# Altium footprint library AiGateway.PcbLib: 18 footprints (part 1 of 2)
Each footprint in its own frame and in the unit in brackets; x right, y up, seen from the top. Pads: shape width x height; smd on the part's side, far side on the other; paste and mask are expansions set on the pad; w line width, h text height; cw(c..) or ccw(c..) is an arc to the next point about the centre after c.
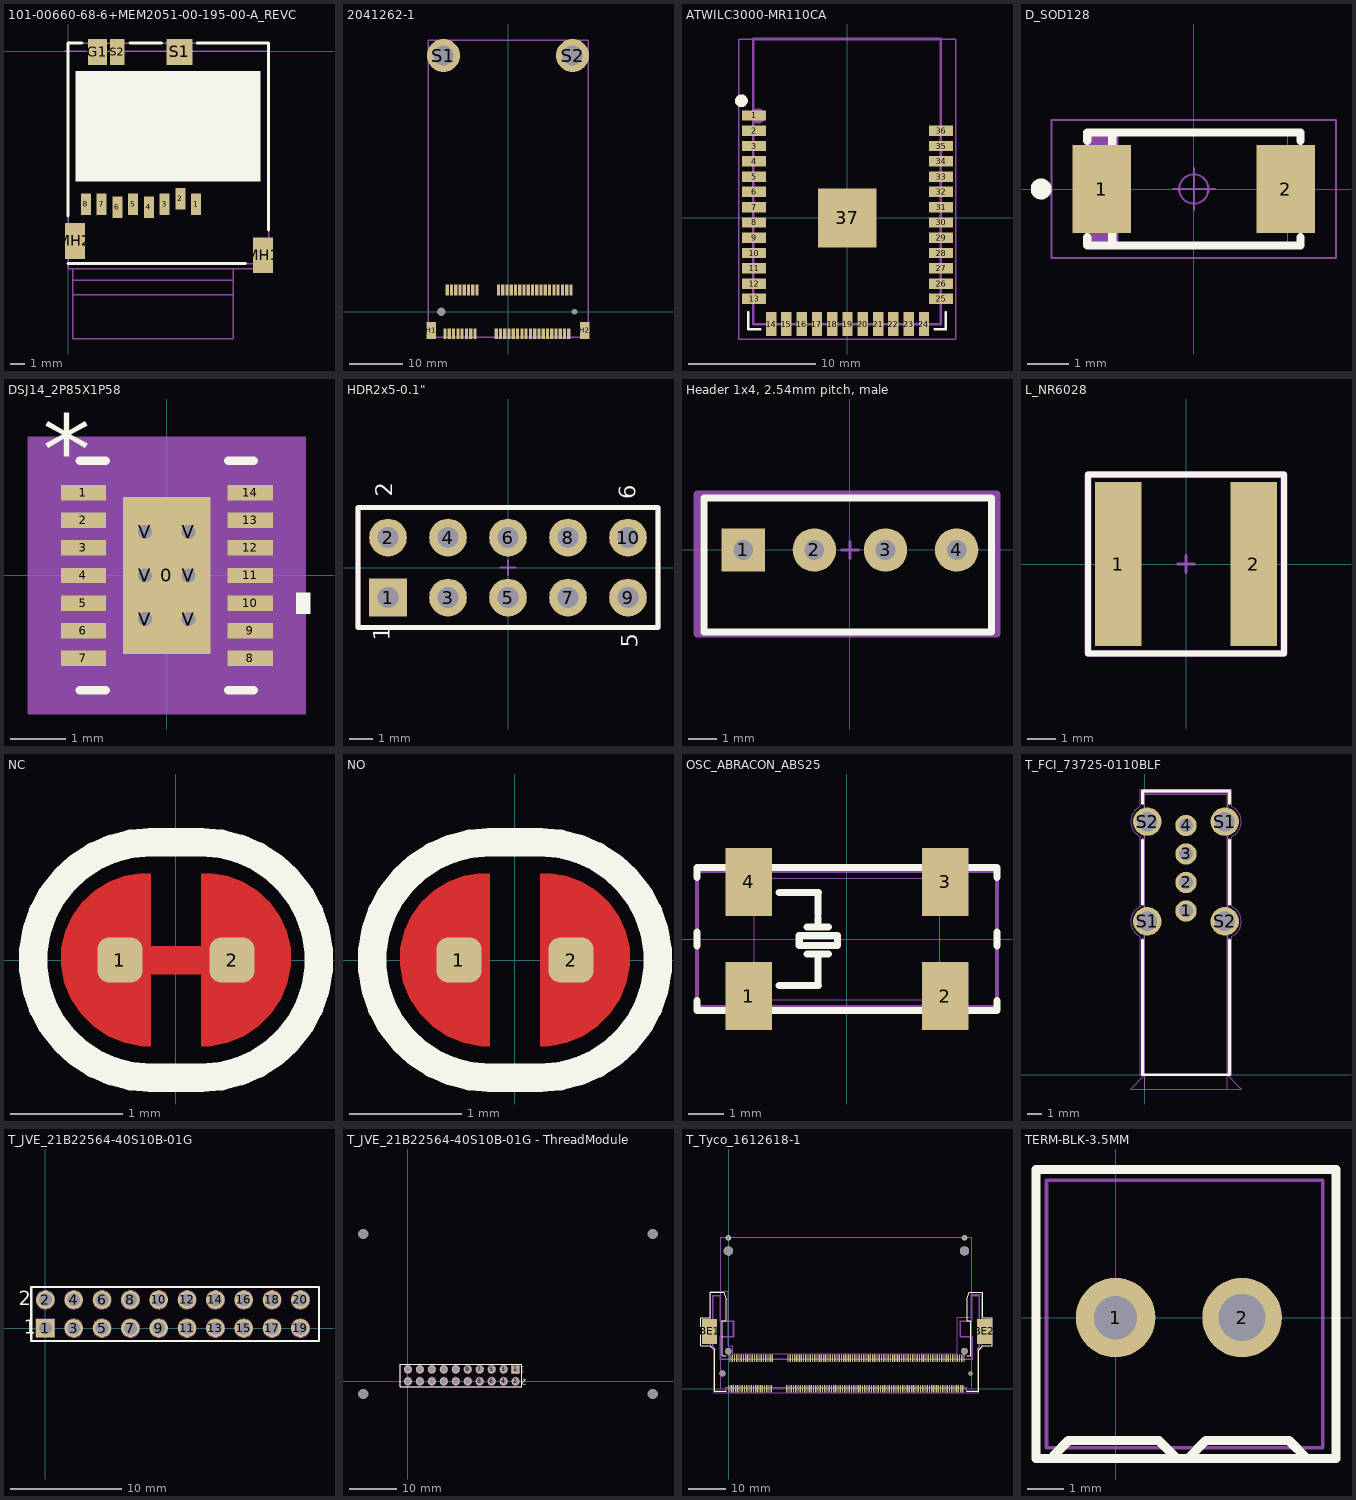
[diagram p0: the footprints below, top view; thin cyan lines are the x and y axes]

## 101-00660-68-6+MEM2051-00-195-00-A_REVC [mm] "FCI microSD connector"
height 1.78
pads (13):
  rect 0.7x1.5 smd: 1(8.92,-10.7) 2(7.82,-10.3) 3(6.72,-10.7) 4(5.62,-10.9) 5(4.52,-10.7) 6(3.42,-10.9) 7(2.32,-10.7) 8(1.22,-10.7)
  rect 1.3x1.8 smd: G1(2.03,-0.05)
  rect 1.4x2.5 smd: MH1(13.6,-14.25) MH2(0.45,-13.25)
  rect 1.8x1.8 smd: S1(7.75,-0.05)
  rect 1x1.8 smd: S2(3.42,-0.05)
Top Layer keep-out:
  rectangle: 0.73,-5.67 9.43,-3.37
Top Overlay:
  rectangle: 0.5,-9.1 13.4,-1.4
  lines w0.2: -0.02,-14.84 12.37,-14.84 ; -0.02,-11.52 -0.02,0.56 0.96,0.56 ; 4.29,0.56 6.5,0.56 ; 9,0.56 13.98,0.56 13.98,-12.5
Mechanical 13:
  lines w0.1: -0.02,-14.84 -0.02,0.56 13.98,0.56 13.98,-14.84 -0.02,-14.84
Mechanical 15:
  lines w0.1: -0.3,0 0.3,0 ; 0,-0.3 0,0.3 ; 0.3,-17 11.5,-17 ; 0.3,-16 11.5,-16 ; 0.3,-15.2 0.3,-20.1 11.5,-20.1 11.5,-15.2 ; 0,-15.2 0,0 14,0 14,-15.2 0,-15.2
  text "ejected" at 3.9,-20.7 h0.5
  text "locked" at 3.9,-17.6 h0.5
  text "push to insert/eject" at 3.9,-16.6 h0.5
  text ".Designator" at 0.9,-2.7 h1.02
3D body: height 1.45, standoff 0.65, extent 0.3,-17 11.5,-2
3D body: height 1.4, standoff 0.7, extent 0.3,-20.1 11.5,-5.1
3D body "MEM2051-00-195-00-A.stp": height 1.95, standoff 0, extent -0.05,-14.75 14.05,0.6

## 2041262-1 [mm]
height 6.8
pads (58):
  rect 0.6x2 smd: 1(-11.8,-4.1) 2(-11.4,4.1) 3(-11,-4.1) 4(-10.6,4.1) 5(-10.2,-4.1) 6(-9.8,4.1) 7(-9.4,-4.1) 8(-9,4.1) 9(-8.6,-4.1) 10(-8.2,4.1) 11(-7.8,-4.1) 12(-7.4,4.1) 13(-7,-4.1) 14(-6.6,4.1) 15(-6.2,-4.1) 16(-5.8,4.1) 17(-2.2,-4.1) 18(-1.8,4.1) 19(-1.4,-4.1) 20(-1,4.1) 21(-0.6,-4.1) 22(-0.2,4.1) 23(0.2,-4.1) 24(0.6,4.1) 25(1,-4.1) 26(1.4,4.1) 27(1.8,-4.1) 28(2.2,4.1) 29(2.6,-4.1) 30(3,4.1) 31(3.4,-4.1) 32(3.8,4.1) 33(4.2,-4.1) 34(4.6,4.1) 35(5,-4.1) 36(5.4,4.1) 37(5.8,-4.1) 38(6.2,4.1) 39(6.6,-4.1) 40(7,4.1) 41(7.4,-4.1) 42(7.8,4.1) 43(8.2,-4.1) 44(8.6,4.1) 45(9,-4.1) 46(9.4,4.1) 47(9.8,-4.1) 48(10.2,4.1) 49(10.6,-4.1) 50(11,4.1) 51(11.4,-4.1) 52(11.8,4.1)
  rect 1.8x3.2 smd: H1(-14.4,-3.5) H2(14.4,-3.5)
  round 6.2 / inner round 0 / far side round 0 hole 3.73: S1(-12.1,48.05) S2(12.1,48.05)
  round 0 hole 1.6 unplated: ""(-12.5,0)
  round 0 hole 1.1 unplated: ""(12.5,0)
Top Paste:
  circle w0.6: c-14.265,49.3 r0.2
  circle w0.6: c-13.35,50.215 r0.2
  circle w0.6: c-12.1,50.55 r0.2
  circle w0.6: c-10.85,50.215 r0.2
  circle w0.6: c-9.935,49.3 r0.2
  circle w0.6: c-9.6,48.05 r0.2
  circle w0.6: c-14.6,48.05 r0.2
  circle w0.6: c-14.265,46.8 r0.2
  circle w0.6: c-13.35,45.885 r0.2
  circle w0.6: c-12.1,45.55 r0.2
  circle w0.6: c-10.85,45.885 r0.2
  circle w0.6: c-9.935,46.8 r0.2
  circle w0.6: c14.265,46.8 r0.2
  circle w0.6: c13.35,45.885 r0.2
  circle w0.6: c12.1,45.55 r0.2
  circle w0.6: c10.85,45.885 r0.2
  circle w0.6: c9.935,46.8 r0.2
  circle w0.6: c9.6,48.05 r0.2
  circle w0.6: c14.6,48.05 r0.2
  circle w0.6: c14.265,49.3 r0.2
  circle w0.6: c13.35,50.215 r0.2
  circle w0.6: c12.1,50.55 r0.2
  circle w0.6: c10.85,50.215 r0.2
  circle w0.6: c9.935,49.3 r0.2
Mechanical 15:
  lines w0.1: -12.8,0 -12.2,0 ; -12.5,-0.3 -12.5,0.3
  lines w0.254: -15,-4.8 15,-4.8 15,50.9 -15,50.9 -15,-4.8
  text ".Designator" at -12.6,-2 h1.02
3D body "K3D-NT4-V1_JAE_Proprietary.STEP": height 3.55, standoff -0.6, extent -14.112,46.047 -10.113,50.047
3D body "c-2041262-1-c-3d.stp": height 6.8, standoff -0.65, extent -14.95,-4.77 14.95,4.48
3D body "K3D-NT4-V1_JAE_Proprietary.STEP": height 3.55, standoff -0.6, extent 10.087,46.047 14.087,50.047
3D body: height 5.35, standoff 4.35, extent -15,-0.1 15,50.9
3D body: height 7.85, standoff 5.35, extent -14,7 13.7,45
3D body: height 4.35, standoff 2.85, extent -14,7.1 13.7,45.1

## ATWILC3000-MR110CA [mm]
height 2.113
pads (37):
  rect 1.88x0.813 smd: 1(-7.31,8.05) 2(-7.31,6.85) 3(-7.31,5.65) 4(-7.31,4.45) 5(-7.31,3.25) 6(-7.31,2.05) 7(-7.31,0.85) 8(-7.31,-0.35) 9(-7.31,-1.55) 10(-7.31,-2.75) 11(-7.31,-3.95) 12(-7.31,-5.15) 13(-7.31,-6.35) 25(7.37,-6.35) 26(7.37,-5.15) 27(7.37,-3.95) 28(7.37,-2.75) 29(7.37,-1.55) 30(7.37,-0.35) 31(7.37,0.85) 32(7.37,2.05) 33(7.37,3.25) 34(7.37,4.45) 35(7.37,5.65) 36(7.37,6.85)
  rect 0.813x1.88 smd: 14(-5.97,-8.33) 15(-4.77,-8.33) 16(-3.57,-8.33) 17(-2.37,-8.33) 18(-1.17,-8.33) 19(0.03,-8.33) 20(1.23,-8.33) 21(2.43,-8.33) 22(3.63,-8.33) 23(4.83,-8.33) 24(6.03,-8.33)
  rect 4.6x4.6 smd paste-5: 37(0,0)
Top Overlay:
  circle w0.5: c-8.3,9.2 r0.25
  lines w0.2: -7.75,-7.393 -7.75,-8.75 -6.822,-8.75 ; 6.882,-8.75 7.75,-8.75 7.75,-7.393
Top Paste:
  rectangle: -1.777,0.762 -0.761,1.778
  rectangle: -0.506,0.762 0.51,1.778
  rectangle: -0.507,-0.508 0.509,0.508
  rectangle: -1.776,-0.508 -0.76,0.508
  rectangle: -1.777,-1.778 -0.761,-0.762
  rectangle: -0.506,-1.778 0.51,-0.762
  rectangle: 0.764,-0.508 1.78,0.508
  rectangle: 0.763,-1.778 1.779,-0.762
  rectangle: 0.763,0.762 1.779,1.778
Mechanical 13:
  lines w0.2: -7.366,-8.33 7.366,-8.33 7.366,14.05 -7.366,14.05 -7.366,-8.33
Mechanical 15:
  circle w1: c-7,8 r0.1
  lines w0.1: -0.3,0 0.3,0 ; 0,-0.3 0,0.3 ; -8.5,-9.5 -8.5,14.05 8.53,14.05 8.53,-9.5 -8.5,-9.5
  text ".Designator" at -3.5,-2.8 h1.02
3D body "for3d.step": height 2.73, standoff 0.01, extent -7.34,-8.33 7.34,14.05

## D_SOD128 [mm] "Bidirectional ESD protection"
height 2.29
pads (2):
  rect 1.4x2.1 smd mask+0.2: 1(-2.2,0) 2(2.2,0)
Top Overlay:
  circle w0.25: c-3.65,0 r0.125
  lines w0.2: -2.55,-1.15 -2.55,-1.35 2.55,-1.35 2.55,-1.15 ; -2.55,1.15 -2.55,1.35 2.55,1.35 2.55,1.15 ; -1.95,-1.3 -1.95,1.35
Mechanical 1:
  circle w0.05: c0,0 r0.35
  lines w0.05: -0.5,0 0.5,0 ; 0,-0.5 0,0.5 ; -3.4,-1.65 3.4,-1.65 3.4,1.65 -3.4,1.65 -3.4,-1.65
Mechanical 2:
  lines w0.001: -2.25,-1.395 2.25,-1.395 2.25,1.395 -2.25,1.395 -2.25,-1.395
Mechanical 3:
  lines w0.1: -2.452,-1.332 -2.452,1.332 ; -2.352,-1.332 -2.352,1.332 ; -2.252,-1.332 -2.252,1.332 ; -2.152,-1.332 -2.152,1.332 ; -2.052,-1.332 -2.052,1.332 ; -1.952,-1.332 -1.952,1.332 ; -1.852,-1.332 -1.852,1.332 ; -2.552,-1.332 -2.552,1.332 ; -2.552,-1.332 2.552,-1.332 2.552,1.332 -2.552,1.332 ; -2.552,-1.332 -2.552,1.332
3D body: height 2.29, standoff 0, extent -2.25,-1.395 2.25,1.395

## DSJ14_2P85X1P58 [mm]
pads (21):
  rect 1.58x2.85 smd paste-1.412 mask-1.41: 0(0,0)
  rect 0.82x0.28 smd paste-0.397: 1(-1.51,1.5) 2(-1.51,1) 3(-1.51,0.5) 4(-1.51,0) 5(-1.51,-0.5) 6(-1.51,-1) 7(-1.51,-1.5) 8(1.51,-1.5) 9(1.51,-1) 10(1.51,-0.5) 11(1.51,0) 12(1.51,0.5) 13(1.51,1) 14(1.51,1.5)
  round 0.508 hole 0.254: V(-0.394,-0.787) V(-0.394,0) V(-0.394,0.787) V(0.394,-0.787) V(0.394,0) V(0.394,0.787)
Top Overlay:
  region: 2.337,-0.309 2.591,-0.309 2.591,-0.69 2.337,-0.69
  lines w0.152: -1.575,-2.075 -1.11,-2.075 ; -1.575,2.075 -1.11,2.075 ; 1.11,-2.075 1.575,-2.075 ; 1.11,2.075 1.575,2.075
  text "*" at -2.244,1.653 h1.27
Top Paste:
  drawing of 34 lines, arcs and shapes, not listed
Top Solder:
  region: -1.1,1.64 -1.92,1.64 -1.92,1.36 -1.1,1.36
  region: -1.1,1.14 -1.92,1.14 -1.92,0.86 -1.1,0.86
  region: -1.1,0.64 -1.92,0.64 -1.92,0.36 -1.1,0.36
  region: -1.1,0.14 -1.92,0.14 -1.92,-0.14 -1.1,-0.14
  region: -1.1,-0.36 -1.92,-0.36 -1.92,-0.64 -1.1,-0.64
  region: -1.1,-0.86 -1.92,-0.86 -1.92,-1.14 -1.1,-1.14
  region: -1.1,-1.36 -1.92,-1.36 -1.92,-1.64 -1.1,-1.64
  region: 1.92,-1.36 1.1,-1.36 1.1,-1.64 1.92,-1.64
  region: 1.92,-0.86 1.1,-0.86 1.1,-1.14 1.92,-1.14
  region: 1.92,-0.36 1.1,-0.36 1.1,-0.64 1.92,-0.64
  region: 1.92,0.14 1.1,0.14 1.1,-0.14 1.92,-0.14
  region: 1.92,0.64 1.1,0.64 1.1,0.36 1.92,0.36
  region: 1.92,1.14 1.1,1.14 1.1,0.86 1.92,0.86
  region: 1.92,1.64 1.1,1.64 1.1,1.36 1.92,1.36
  region: -0.008,2.077 -0.008,1.323 -0.442,1.323 -0.442,2.077
  region: 0.008,2.077 0.008,1.323 0.442,1.323 0.442,2.077
  region: -0.458,2.077 -0.458,1.323 -0.892,1.323 -0.892,2.077
  region: 0.458,2.077 0.458,1.323 0.892,1.323 0.892,2.077
  region: -0.008,-2.077 -0.008,-1.323 -0.442,-1.323 -0.442,-2.077
  region: 0.008,-2.077 0.008,-1.323 0.442,-1.323 0.442,-2.077
  region: -0.458,-2.077 -0.458,-1.323 -0.892,-1.323 -0.892,-2.077
  region: 0.458,-2.077 0.458,-1.323 0.892,-1.323 0.892,-2.077
  region: -0.854,0.987 -0.854,1.488 0.854,1.488 0.854,0.987
  region: -0.854,0.2 -0.854,0.587 0.854,0.587 0.854,0.2
  region: -0.854,-0.587 -0.854,-0.2 0.854,-0.2 0.854,-0.587
  region: -0.854,-1.488 -0.854,-0.987 0.854,-0.987 0.854,-1.488
  region: -0.854,-1.488 -0.854,1.488 -0.594,1.488 -0.594,-1.488
  region: 0.194,-1.488 0.194,1.488 -0.194,1.488 -0.194,-1.488
  region: 0.594,-1.488 0.594,1.488 0.854,1.488 0.854,-1.488
Mechanical 5:
  region: 2.515,-2.507 -2.515,-2.507 -2.515,2.507 2.515,2.507
Mechanical 13:
  lines w0: -0.305,2.075 ccw(c0,2.075) 0.305,2.075
  lines w0.025: -1.575,-2.075 1.575,-2.075 1.575,2.075 -1.575,2.075 -1.575,-2.075 ; -1.575,-1.65 -1.575,-1.35 -1.575,-1.65 ; -1.575,-1.15 -1.575,-0.85 -1.575,-1.15 ; -1.575,-0.65 -1.575,-0.35 -1.575,-0.65 ; -1.575,-0.15 -1.575,0.15 -1.575,-0.15 ; -1.575,0.35 -1.575,0.65 -1.575,0.35 ; -1.575,0.85 -1.575,1.15 -1.575,0.85 ; -1.575,1.35 -1.575,1.65 -1.575,1.35 ; 1.575,-1.65 1.575,-1.35 1.575,-1.65 ; 1.575,-1.15 1.575,-0.85 1.575,-1.15 ; 1.575,-0.65 1.575,-0.35 1.575,-0.65 ; 1.575,-0.15 1.575,0.15 1.575,-0.15 ; 1.575,0.35 1.575,0.65 1.575,0.35 ; 1.575,0.85 1.575,1.15 1.575,0.85 ; 1.575,1.35 1.575,1.65 1.575,1.35
  text "*" at -2.244,1.653 h1.27
Mechanical 15:
  region: 2.134,-2.126 -2.134,-2.126 -2.134,2.126 2.134,2.126
  lines w0.152: -2.134,-2.126 -2.134,2.126 2.134,2.126 2.134,-2.126 -2.134,-2.126
3D body: height 0.25, standoff 0, extent 0,0 0.254,0.254

## HDR2x5-0.1" [mm] "TH FEMALE PIN H8.1 P2.54"
pads (10):
  rect 1.6x1.6 hole 0.9: 1(-5.08,-1.27)
  round 1.6 hole 0.9: 2(-5.08,1.27) 3(-2.54,-1.27) 4(-2.54,1.27) 5(0,-1.27) 6(0,1.27) 7(2.54,-1.27) 8(2.54,1.27) 9(5.08,-1.27) 10(5.08,1.27)
Top Overlay:
  lines w0.2: -3.598,-2.54 6.35,-2.54 6.35,2.54 -6.35,2.54 -6.35,-2.54 1.27,-2.54
  text "1" at -5,-3.1 h0.7
  text "2" at -4.9,3 h0.7
  text "5" at 5.5,-3.4 h0.7
  text "6" at 5.4,2.9 h0.7
Mechanical 15:
  lines w0.1: -0.3,0 0.3,0 ; 0,-0.3 0,0.3
  lines w0.2: -6.35,-2.54 6.35,-2.54 6.35,2.54 -6.35,2.54 -6.35,-2.54
  text ".Designator" at -5.8,-1.8 h1.02
3D body "TSW-105-07-T-D.stp": height 8.38, standoff -2.54, extent -6.29,-2.54 6.41,2.54

## Header 1x4, 2.54mm pitch, male [mm]
pads (4):
  rect 1.55x1.55 hole 0.7: 1(-3.81,0)
  round 1.55 hole 0.7: 2(-1.27,0) 3(1.27,0) 4(3.81,0)
Top Overlay:
  lines w0.254: 5,-2.921 -5.207,-2.921 -5.207,1.854 5,1.854 ; 5.048,-2.921 5.048,1.854
Mechanical 15:
  lines w0.1: -0.3,0 0.3,0 ; 0,-0.3 0,0.3
  lines w0.254: -5.461,-3 5.25,-3 5.25,2 -5.461,2 -5.461,-3
  text ".Designator" at -4.572,-2.286 h1.02
3D body "B4B-PH-K-S.STEP": height 6, standoff -3.4, extent -5.001,-2.773 4.899,1.727

## L_NR6028 [mm]
height 4.5
pads (2):
  rect 1.6x5.7 smd: 1(-2.35,0) 2(2.35,0)
Top Overlay:
  lines w0.2: -3.4,3.1 -3.4,-3.1 3.4,-3.1 3.4,3.1 -3.4,3.1 ; -3.4,3.1 -3.4,3.1
Mechanical 15:
  lines w0.1: -0.3,0 0.3,0 ; 0,-0.3 0,0.3
  lines w0.254: -3.4,3.1 -3.4,-3.1 3.4,-3.1 3.4,3.1 -3.4,3.1 ; -3.4,3.1 -3.4,3.1
  text ".Designator" at -1.575,-1.524 h1.02
3D body: height 4.5, standoff 0, extent -3,-2.9 3,2.9

## NC [mm]
height 1.1
pads (2):
  rrect50% 0.4x0.4 smd paste-1 mask-1: 1(-0.5,0)
  rrect50% 0.4x0.4 smd paste-1: 2(0.5,0)
Top Layer:
  region: -0.225,-0.77 -0.304,-0.77 -0.458,-0.739 -0.604,-0.679 -0.735,-0.591 -0.846,-0.48 -0.934,-0.349 -0.994,-0.203 -1.025,-0.049 -1.025,0.03 -1.022,0.106 -0.987,0.253 -0.923,0.391 -0.834,0.514 -0.723,0.617 -0.593,0.697 -0.451,0.749 -0.301,0.773 -0.225,0.77
  region: 0.225,-0.77 0.304,-0.77 0.458,-0.739 0.604,-0.679 0.735,-0.591 0.846,-0.48 0.934,-0.349 0.994,-0.203 1.025,-0.049 1.025,0.03 1.022,0.106 0.987,0.253 0.923,0.391 0.834,0.514 0.723,0.617 0.593,0.697 0.451,0.749 0.301,0.773 0.225,0.77
  region: -1.4,1.425
  lines w0.254: -0.225,0 0.225,0
Top Overlay:
  lines w0.254: -0.225,-1.05 cw(c-0.225,0) -0.225,1.05 0.225,1.05 cw(c0.225,0) 0.225,-1.05 -0.225,-1.05
Top Solder:
  region: -0.25,0.875 0.275,0.875 0.275,-0.875 -0.25,-0.875

## NO [mm]
height 1.1
pads (2):
  rrect50% 0.4x0.4 smd paste-1 mask-1: 1(-0.5,0)
  rrect50% 0.4x0.4 smd paste-1: 2(0.5,0)
Top Layer:
  region: 0.225,-0.77 0.304,-0.77 0.458,-0.739 0.604,-0.679 0.735,-0.591 0.846,-0.48 0.934,-0.349 0.994,-0.203 1.025,-0.049 1.025,0.03 1.022,0.106 0.987,0.253 0.923,0.391 0.834,0.514 0.723,0.617 0.593,0.697 0.451,0.749 0.301,0.773 0.225,0.77
  region: -1.4,1.425
  region: -0.225,-0.77 -0.304,-0.77 -0.458,-0.739 -0.604,-0.679 -0.735,-0.591 -0.846,-0.48 -0.934,-0.349 -0.994,-0.203 -1.025,-0.049 -1.025,0.03 -1.022,0.106 -0.987,0.253 -0.923,0.391 -0.834,0.514 -0.723,0.617 -0.593,0.697 -0.451,0.749 -0.301,0.773 -0.225,0.77
Top Overlay:
  lines w0.254: -0.225,-1.05 cw(c-0.225,0) -0.225,1.05 0.225,1.05 cw(c0.225,0) 0.225,-1.05 -0.225,-1.05
Top Solder:
  region: -0.25,0.875 0.275,0.875 0.275,-0.875 -0.25,-0.875

## OSC_ABRACON_ABS25 [mm] "OSC"
height 0.9
pads (4):
  rect 1.3x1.9 smd: 1(-2.75,-1.6) 2(2.75,-1.6) 3(2.75,1.6) 4(-2.75,1.6)
Top Overlay:
  lines w0.2: -4.2,-1.722 -4.2,-2.001 4.2,-2.001 ; -4.2,-0.2 -4.2,0.2 ; -4.2,1.72 -4.2,1.999 ; -4.2,2.001 4.2,2.001 4.2,1.722 ; -1.9,-1.3 -0.8,-1.3 -0.815,-1.285 -0.815,-0.67 -0.815,-0.42 ; -1.9,1.3 -0.8,1.3 -0.815,1.285 -0.815,0.67 ; -1.115,-0.42 -0.515,-0.42 ; -1.115,0.34 -0.515,0.34 ; -0.815,0.34 -0.815,0.59 ; 4.2,-1.999 4.2,-1.72 ; 4.2,-0.2 4.2,0.2 ; -1.335,-0.18 -1.335,0.1 -0.265,0.1 -0.265,-0.18 -1.335,-0.18
Mechanical 1:
  lines w0.05: -4.2,-2.001 -4.2,2.001 ; -3.05,-2.001 3.05,-2.001 ; -3.05,2.001 3.05,2.001 ; 4.2,-2.001 4.2,2.001
Mechanical 2:
  lines w0.001: -2.6,-1.7 -2.6,1.7 2.6,1.7 2.6,-1.7 -2.6,-1.7
Mechanical 3:
  lines w0.1: -4.2,-1.9 -4.2,1.9 4.2,1.9 4.2,-1.9 -4.2,-1.9
3D body: height 0.9, standoff 0, extent -2.6,-1.7 2.6,1.7

## T_FCI_73725-0110BLF [mm] "USB Type A Connector Vertical"
height 13.83
pads (8):
  round 1.5 hole 0.95: 1(2.88,11.49) 2(2.88,13.49) 3(2.88,15.49) 4(2.88,17.49)
  round 2 hole 1.37: S1(0.16,10.76) S1(5.6,17.76) S2(0.16,17.76) S2(5.6,10.76)
Top Overlay:
  lines w0.2: -0.166,9.463 -0.166,0 5.926,0 5.926,9.463 ; -0.166,11.964 -0.166,16.474 ; -0.166,19.025 -0.166,19.898 5.926,19.898 5.926,19.025 ; 5.922,11.964 5.922,16.474
Mechanical 1:
  lines w0.05: -0.322,9.709 -0.322,0 6.081,0 6.081,9.707 ; -0.322,18.812 -0.322,20.046 -0.32,20.048 6.081,20.048 ; -0.321,9.708 cw(c0.16,10.76) -0.322,11.812 ; -0.321,11.813 -0.321,16.708 cw(c0.16,17.76) -0.322,18.812 ; 6.081,16.707 6.081,11.812 cw(c5.6,10.76) 6.082,9.708 ; 6.081,18.812 cw(c5.6,17.76) 6.082,16.708 ; 6.082,18.814 6.082,20.048
Mechanical 2:
  lines w0.001: 0,-1 0,19.678 5.76,19.678 5.76,-1 ; -1,-1 6.76,-1 5.76,0 0,0 -1,-1
Mechanical 3:
  lines w0.1: -0.068,19.778 5.826,19.778 5.826,0 -0.065,0 -0.065,19.778

## T_JVE_21B22564-40S10B-01G [mm] "Header 2x20"
height 8.6
pads (20):
  rect 1.65x1.65 hole 1.15: 1(0,0)
  round 1.65 hole 1.15: 2(0,2.54) 3(2.54,0) 4(2.54,2.54) 5(5.08,0) 6(5.08,2.54) 7(7.62,0) 8(7.62,2.54) 9(10.16,0) 10(10.16,2.54) 11(12.7,0) 12(12.7,2.54) 13(15.24,0) 14(15.24,2.54) 15(17.78,0) 16(17.78,2.54) 17(20.32,0) 18(20.32,2.54) 19(22.86,0) 20(22.86,2.54)
Top Overlay:
  lines w0.2: -1.27,-1.14 24.53,-1.14 24.53,3.68 -1.27,3.68 -1.27,-1.137
  text "2" at -2.364,2.048 h1.27
  text "1" at -1.941,-0.522 h1.27
Mechanical 1:
  circle w0.05: c0,0 r0.35
  lines w0.05: -1.27,-1.14 24.53,-1.14 24.53,3.68 -1.27,3.68 -1.27,-1.137 ; -0.5,0 0.5,0 ; 0,-0.5 0,0.5
Mechanical 2:
  lines w0.001: -1.27,-1.14 24.53,-1.14 24.53,3.68 -1.27,3.68 -1.27,-1.14
Mechanical 3:
  circle w0.1: c0,2.54 r0.825
  circle w0.1: c2.54,0 r0.825
  circle w0.1: c2.54,2.54 r0.825
  circle w0.1: c5.08,0 r0.825
  circle w0.1: c5.08,2.54 r0.825
  circle w0.1: c7.62,0 r0.825
  circle w0.1: c7.62,2.54 r0.825
  circle w0.1: c10.16,0 r0.825
  circle w0.1: c10.16,2.54 r0.825
  circle w0.1: c12.7,0 r0.825
  circle w0.1: c12.7,2.54 r0.825
  circle w0.1: c15.24,0 r0.825
  circle w0.1: c15.24,2.54 r0.825
  circle w0.1: c17.78,0 r0.825
  circle w0.1: c17.78,2.54 r0.825
  circle w0.1: c20.32,0 r0.825
  circle w0.1: c20.32,2.54 r0.825
  circle w0.1: c22.86,0 r0.825
  circle w0.1: c22.86,2.54 r0.825
  lines w0.1: -1.27,-1.14 24.53,-1.14 24.53,3.68 -1.27,3.68 -1.27,-1.137 ; -0.825,-0.825 -0.825,0.825 0.825,0.825 0.825,-0.825

## T_JVE_21B22564-40S10B-01G - ThreadModule [mm] "Header 2x20"
height 8.6
pads (24):
  round 0 hole 2.2 unplated: 0(-9.5,-2.7) 0(-9.5,31.3) 0(52,-2.7) 0(52,31.3)
  rect 1.65x1.65 hole 1.15: 1(22.86,2.54)
  round 1.65 hole 1.15: 2(22.86,0) 3(20.32,2.54) 4(20.32,0) 5(17.78,2.54) 6(17.78,0) 7(15.24,2.54) 8(15.24,0) 9(12.7,2.54) 10(12.7,0) 11(10.16,2.54) 12(10.16,0) 13(7.62,2.54) 14(7.62,0) 15(5.08,2.54) 16(5.08,0) 17(2.54,2.54) 18(2.54,0) 19(0,2.54) 20(0,0)
Top Overlay:
  lines w0.2: 24.13,3.677 24.13,-1.14 -1.67,-1.14 -1.67,3.68 24.13,3.68
  text "1" at 24.801,3.062 h1.27
  text "2" at 25.224,0.492 h1.27
Mechanical 1:
  circle w0.05: c22.86,2.54 r0.35
  lines w0.05: 22.36,2.54 23.36,2.54 ; 22.86,2.04 22.86,3.04 ; 24.13,3.677 24.13,-1.14 -1.67,-1.14 -1.67,3.68 24.13,3.68
Mechanical 2:
  lines w0.001: -1.67,-1.14 24.13,-1.14 24.13,3.68 -1.67,3.68 -1.67,-1.14
Mechanical 3:
  circle w0.1: c0,0 r0.825
  circle w0.1: c0,2.54 r0.825
  circle w0.1: c15.24,0 r0.825
  circle w0.1: c15.24,2.54 r0.825
  circle w0.1: c2.54,0 r0.825
  circle w0.1: c2.54,2.54 r0.825
  circle w0.1: c5.08,0 r0.825
  circle w0.1: c5.08,2.54 r0.825
  circle w0.1: c10.16,0 r0.825
  circle w0.1: c10.16,2.54 r0.825
  circle w0.1: c12.7,0 r0.825
  circle w0.1: c12.7,2.54 r0.825
  circle w0.1: c20.32,0 r0.825
  circle w0.1: c20.32,2.54 r0.825
  circle w0.1: c22.86,0 r0.825
  circle w0.1: c7.62,0 r0.825
  circle w0.1: c7.62,2.54 r0.825
  circle w0.1: c17.78,0 r0.825
  circle w0.1: c17.78,2.54 r0.825
  lines w0.1: 22.035,3.365 22.035,1.715 23.685,1.715 23.685,3.365 ; 24.13,3.677 24.13,-1.14 -1.67,-1.14 -1.67,3.68 24.13,3.68
3D body "ThreadModule.step": height 21.4, standoff 1.7, extent -12.5,-5.7 62.702,34.3
3D body "TSW-105-07-T-D.stp": height 2.54, standoff -8.38, extent 11.46,-1.3 24.16,3.78
3D body "TSW-105-07-T-D.stp": height 2.54, standoff -8.38, extent -1.24,-1.3 11.46,3.78

## T_Tyco_1612618-1 [mm] "SODIMM Connector"
height 5.2
pads (210):
  rect 0.35x2 smd: 1(0,0) 2(0.3,8.2) 3(0.6,0) 4(0.9,8.2) 5(1.2,0) 6(1.5,8.2) 7(1.8,0) 8(2.1,8.2) 9(2.4,0) 10(2.7,8.2) 11(3,0) 12(3.3,8.2) 13(3.6,0) 14(3.9,8.2) 15(4.2,0) 16(4.5,8.2) 17(4.8,0) 18(5.1,8.2) 19(5.4,0) 20(5.7,8.2) 21(6,0) 22(6.3,8.2) 23(6.6,0) 24(6.9,8.2) 25(7.2,0) 26(7.5,8.2) 27(7.8,0) 28(8.1,8.2) 29(8.4,0) 30(8.7,8.2) 31(9,0) 32(9.3,8.2) 33(9.6,0) 34(9.9,8.2) 35(10.2,0) 36(10.5,8.2) 37(10.8,0) 38(11.1,8.2) 39(11.4,0) 40(11.7,8.2) 41(15.6,0) 42(15.9,8.2) 43(16.2,0) 44(16.5,8.2) 45(16.8,0) 46(17.1,8.2) 47(17.4,0) 48(17.7,8.2) 49(18,0) 50(18.3,8.2) 51(18.6,0) 52(18.9,8.2) 53(19.2,0) 54(19.5,8.2) 55(19.8,0) 56(20.1,8.2) 57(20.4,0) 58(20.7,8.2) 59(21,0) 60(21.3,8.2) 61(21.6,0) 62(21.9,8.2) 63(22.2,0) 64(22.5,8.2) 65(22.8,0) 66(23.1,8.2) 67(23.4,0) 68(23.7,8.2) 69(24,0) 70(24.3,8.2) 71(24.6,0) 72(24.9,8.2) 73(25.2,0) 74(25.5,8.2) 75(25.8,0) 76(26.1,8.2) 77(26.4,0) 78(26.7,8.2) 79(27,0) 80(27.3,8.2) 81(27.6,0) 82(27.9,8.2) 83(28.2,0) 84(28.5,8.2) 85(28.8,0) 86(29.1,8.2) 87(29.4,0) 88(29.7,8.2) 89(30,0) 90(30.3,8.2) 91(30.6,0) 92(30.9,8.2) 93(31.2,0) 94(31.5,8.2) 95(31.8,0) 96(32.1,8.2) 97(32.4,0) 98(32.7,8.2) 99(33,0) 100(33.3,8.2) 101(33.6,0) 102(33.9,8.2) 103(34.2,0) 104(34.5,8.2) 105(34.8,0) 106(35.1,8.2) 107(35.4,0) 108(35.7,8.2) 109(36,0) 110(36.3,8.2) 111(36.6,0) 112(36.9,8.2) 113(37.2,0) 114(37.5,8.2) 115(37.8,0) 116(38.1,8.2) 117(38.4,0) 118(38.7,8.2) 119(39,0) 120(39.3,8.2) 121(39.6,0) 122(39.9,8.2) 123(40.2,0) 124(40.5,8.2) 125(40.8,0) 126(41.1,8.2) 127(41.4,0) 128(41.7,8.2) 129(42,0) 130(42.3,8.2) 131(42.6,0) 132(42.9,8.2) 133(43.2,0) 134(43.5,8.2) 135(43.8,0) 136(44.1,8.2) 137(44.4,0) 138(44.7,8.2) 139(45,0) 140(45.3,8.2) 141(45.6,0) 142(45.9,8.2) 143(46.2,0) 144(46.5,8.2) 145(46.8,0) 146(47.1,8.2) 147(47.4,0) 148(47.7,8.2) 149(48,0) 150(48.3,8.2) 151(48.6,0) 152(48.9,8.2) 153(49.2,0) 154(49.5,8.2) 155(49.8,0) 156(50.1,8.2) 157(50.4,0) 158(50.7,8.2) 159(51,0) 160(51.3,8.2) 161(51.6,0) 162(51.9,8.2) 163(52.2,0) 164(52.5,8.2) 165(52.8,0) 166(53.1,8.2) 167(53.4,0) 168(53.7,8.2) 169(54,0) 170(54.3,8.2) 171(54.6,0) 172(54.9,8.2) 173(55.2,0) 174(55.5,8.2) 175(55.8,0) 176(56.1,8.2) 177(56.4,0) 178(56.7,8.2) 179(57,0) 180(57.3,8.2) 181(57.6,0) 182(57.9,8.2) 183(58.2,0) 184(58.5,8.2) 185(58.8,0) 186(59.1,8.2) 187(59.4,0) 188(59.7,8.2) 189(60,0) 190(60.3,8.2) 191(60.6,0) 192(60.9,8.2) 193(61.2,0) 194(61.5,8.2) 195(61.8,0) 196(62.1,8.2) 197(62.4,0) 198(62.7,8.2) 199(63,0) 200(63.3,8.2)
  rect 4x6.8 smd: BE1(-5.2,15.4) BE2(68.8,15.4)
  round 1.6 hole 1.6 unplated: ""(-1.75,4.1)
  round 1.8 hole 1.8 unplated: ""(-0.15,10.1) ""(63.45,10.1)
  round 2.5 hole 2.5 unplated: ""(-0.15,37.1) ""(63.45,37.1)
  round 1.5 hole 0.9: ""(-0.15,40.6) ""(63.45,40.6)
  round 1.1 hole 1.1 unplated: ""(65.05,4.1)
Top Overlay:
  lines w0.2: -0.715,-0.635 -3.881,-0.635 -3.881,6.969 -3.88,6.97 -3.88,10.48 -5,11.6 -7.6,11.6 -7.6,19.1 -5,19.1 -5,25.9 -1.4,25.9 -0.7,23.9 -0.7,18.3 -1.75,18.3 -1.75,13.2 -1.75,8.9 -0.715,8.9 ; 64.065,-0.635 67.231,-0.635 67.231,6.969 67.23,6.97 67.23,10.48 68.35,11.6 70.95,11.6 70.95,19.1 68.35,19.1 68.35,25.9 64.75,25.9 64.05,23.9 64.05,18.3 65.1,18.3 65.1,13.2 65.1,8.9 64.065,8.9
Mechanical 1:
  lines w0.05: -4.897,11.289 -4.028,10.42 -4.028,-1.141 67.249,-1.141 67.249,10.189 68.043,10.983 68.043,11.251 68.043,25.413 65.211,25.413 65.211,19.191 61.502,19.191 61.502,9.374 1,9.374 1,11.6 -0.2,11.6 -0.2,26.2 -4.897,26.2 -4.897,11.289
Mechanical 2:
  lines w0.001: -2.15,0 -2.15,40.8 65.45,40.8 65.45,-0.002 ; -4.399,11.303 -3.891,10.795 -3.891,6.223 -3.891,-0.635 -0.716,-0.635 -0.716,0.254 63.962,0.254 63.962,-0.635 67.102,-0.635 67.102,6.223 67.102,10.795 67.61,11.303 67.61,25.146 65.451,25.146 65.451,18.288 62.276,18.288 62.276,13.97 65.451,13.97 65.451,8.001 -2.24,8.001 -2.24,13.97 1.443,13.97 1.443,18.288 -2.24,18.288 -2.24,25.146 -4.399,25.146 -4.399,11.303
Mechanical 3:
  lines w0.1: -4.272,11.303 -3.764,10.795 -3.764,5.969 -3.764,-0.508 -0.843,-0.508 -0.843,0.381 64.054,0.381 64.054,-0.508 66.975,-0.508 66.975,5.969 66.975,10.922 67.483,11.43 67.483,25.019 65.578,25.019 65.578,18.161 62.403,18.161 62.403,14.097 65.705,14.097 65.705,7.874 -2.367,7.874 -2.367,14.097 1.189,14.097 1.189,18.161 -2.367,18.161 -2.367,25.019 -4.272,25.019 -4.272,11.303
3D body "c-1612618-1-e2-3d.stp": height 9.43, standoff -0.7, extent -6.3,-0.875 69.6,25.681

## TERM-BLK-3.5MM [mm]
height 16.2
pads (2):
  round 2.2 hole 1.2: 1(0,0)
  round 2.2 hole 1.3: 2(3.5,0)
Top Overlay:
  lines w0.254: -1.7,-3.8 -1.3,-3.4 1.2,-3.4 1.7,-3.9 2,-3.9 2.5,-3.4 4.8,-3.4 5.3,-3.9 ; -2.2,-3.9 6.1,-3.9 6.1,4.1 -1.9,4.1 -2.2,4.1 -2.2,3.8 -2.2,-3.9
Mechanical 15:
  lines w0.1: -0.3,0 0.3,0 ; 0,-0.3 0,0.3 ; -1.91,-3.6 5.73,-3.6 5.73,3.8 -1.91,3.8 -1.91,-3.6
  text ".Designator" at -1.3,-2.9 h1.02
3D body "EK381-02P.stp": height 8.5, standoff -3.5, extent -1.91,-3.6 5.71,3.8